# EAGLE library part XILINX-JTAG (library sjg-con)
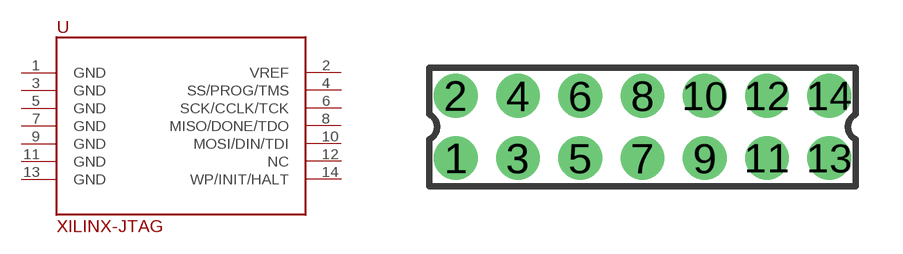
[diagram p7: symbol with the pads of 332-14; footprint 332-14]

Designator prefix -

## XILINX-JTAG  [332-14]
1  GND
2  VREF
3  GND
4  SS/PROG/TMS
5  GND
6  SCK/CCLK/TCK
7  GND
8  MISO/DONE/TDO
9  GND
10  MOSI/DIN/TDI
11  GND
12  NC
13  GND
14  WP/INIT/HALT

## Footprint 332-14 (pad centres in mm)
14 Pin - 2mm Dual Row Source: www.mpe-connector.de / garry_shortform_2012.pdf
drill 0.9 pad 1.27: 1 -6,-1; 2 -6,1; 3 -4,-1; 4 -4,1; 5 -2,-1; 6 -2,1; 7 0,-1; 8 0,1; 9 2,-1; 10 2,1; 11 4,-1; 12 4,1; 13 6,-1; 14 6,1